# Altium schematic symbol library JLCPCB_DIODE_SMD.SchLib: 2 symbols
Pins are listed as number, name and electrical type; pins without a type are passive.

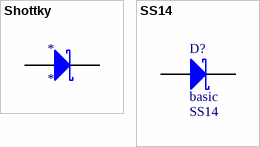
[diagram p0: symbols Shottky to SS14]

## Shottky
designator *
Basic_Part: YES; ComponentLink1Description: Datasheet; ComponentLink1URL: *; MFR_Part#: *; LCSC_Part#: *; Manufacturer: *; V(DC): *; V(RRM)-peak: *; V(RMS): *; I(AVG): *; I(FSM)-surge: *; V(F)@1A: *
pins: 1 A, 2 K

## SS14
designator D?, comment basic  MFR_Part#: SS14
40V 1A 550mV @ 1A SMA(DO-214AC) Schottky Barrier Diodes (SBD) RoHS; Manufacturer: MDD(Microdiode Electronics); Basic_Part: YES; V(RMS): 28V; I(FSM)-surge: 30A; V(F)@1A: 0.5V; ComponentLink1Description: Datasheet; ComponentLink1URL: https://datasheet.lcsc.com/lcsc/2007141104_MDD-Microdiode-Electronics-SS14_C2480.pdf; LCSC_Part#: C2480; V(DC): 40V; V(RRM)-peak: 40V; I(AVG): 1A
footprint DO-214AC/SMA (Molded Diode, 2-Leads, Body 4,25x2,60mm, IPC Medium Density)
pins: 1 A, 2 K